# EAGLE library part IR2104 (library LARS_409_MC)
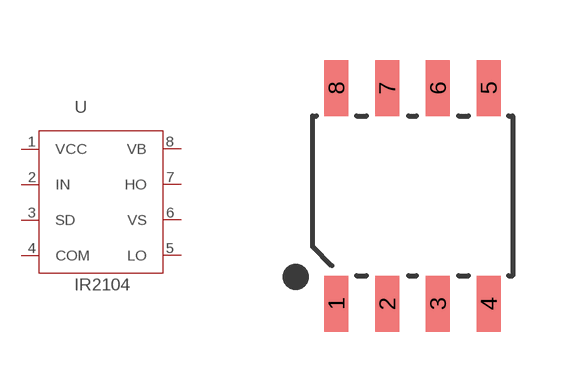
[diagram p1: symbol with the pads of SOIC-8; footprint SOIC-8]

Designator prefix U

## IR2104  [SOIC-8]
1  VCC
2  IN
3  SD
4  COM
5  LO
6  VS
7  HO
8  VB

## Footprint SOIC-8 (pad centres in mm)
smd 0.6 x 1.4: 1 -1.905,-2.7; 2 -0.635,-2.7; 3 0.635,-2.7; 4 1.905,-2.7; 5 1.905,2.7; 6 0.635,2.7; 7 -0.635,2.7; 8 -1.905,2.7